# Altium integrated library General.IntLib: 102 symbols (part 2 of 3)
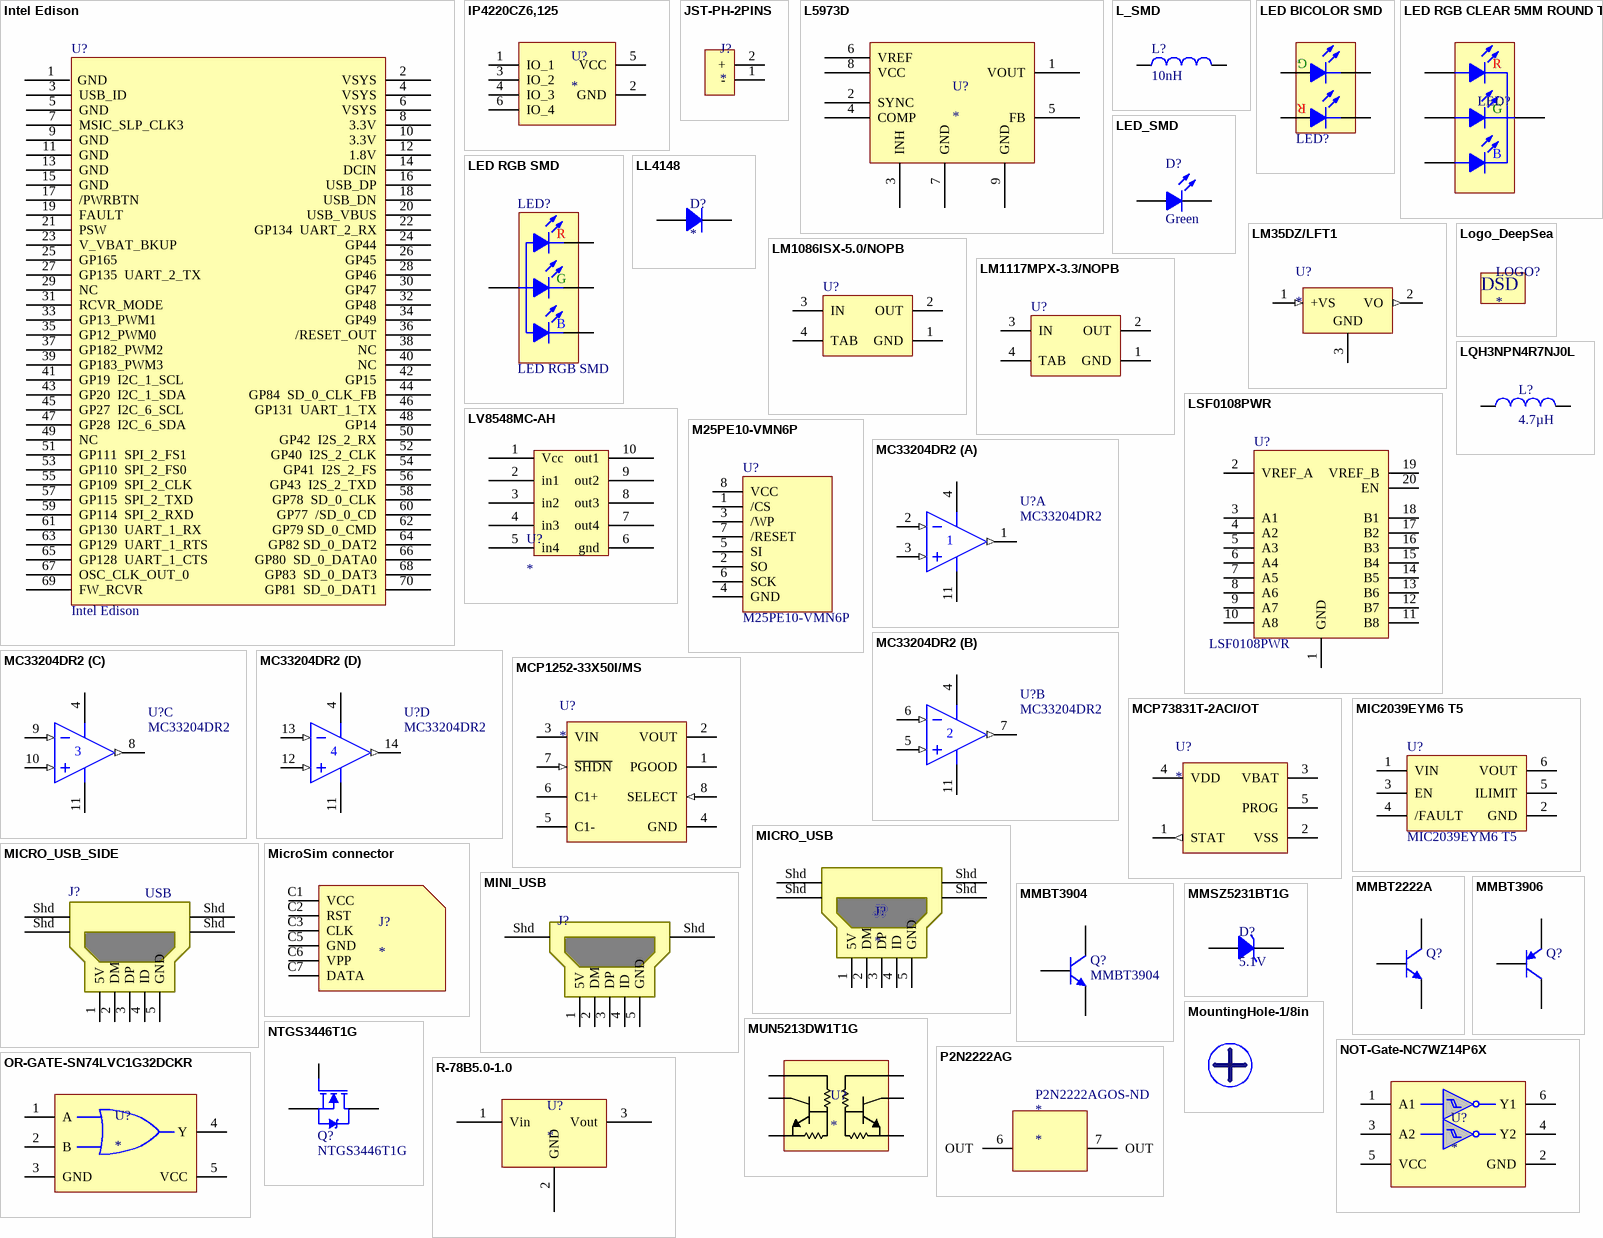
[diagram p4: symbols Intel Edison to R-78B5.0-1.0]

## LM1117MPX-3.3/NOPB
designator U?
800mA Low-Dropout Linear Regulator, 4-pin SOT-223, Pb-Free; PartNumber: LM1117MPX-3.3/NOPB; Manufacturer: National Semiconductor; PackageTopMarking: XYTT*N05A; PowerWise: N; CompType: LDO IC; Regulator Topology: Positive Fixed; Voltage - Output: 3.3V; Voltage - Dropout (Typical): 1.2V @ 800mA; Number of Regulators: 1; Voltage - Input: Up to 15V; Published: 1-Mar-2010; DatasheetVersion: Apr-2006; PackageVersion: revB, Apr-2003; PackageReference: MP04A; Publisher: Altium Limited; PackageDescription: Molded SOT-223, 6.50 x 3.56 x 1.6mm Body, 4 Lead, 2.3mm Pitch; Supplier 1: Digi-Key; Supplier Part Number 1: LM1117MPX-3.3TR-ND; Supplier 2: Digi-Key; Supplier Part Number 2: LM1117MPX-3.3CT-ND; Supplier 3: Digi-Key; Supplier Part Number 3: LM1117MPX-3.3DKR-ND; RoHS: Y; PinCount: 4; Code_JEDEC: TO-261-AA; Code_IPC: SOT223-4; ComponentLink1Description: LM1117 Datasheet; ComponentLink1URL: http://www.national.com/ds/LM/LM1117.pdf; ComponentLink2Description: LM1117 Web Page; ComponentLink2URL: http://www.national.com/pf/LM/LM1117.html; ComponentLink3Description: MP04A Package Page; ComponentLink3URL: http://www.national.com/packaging/folders/mp04a.html; Supplier 4: Digi-Key; Manufacturer Part Number: LM1117MPX-3.3/NOPB; Category: Integrated Circuits (ICs); Stock 4: 15124; Pricing 4: 1=1.1, 10=0.973, 25=0.8784, 100=0.7686, 250=0.67404, 500=0.5978, 750=0.52155, 1000=0.47275 (USD); Packaging: Cut Tape (CT); Current - Output: 800mA; Current - Limit (Min): 800mA; Operating Temperature: 0°C ~ 125°C; Mounting Type: Surface Mount; Package / Case: TO-261-4, TO-261AA; Supplier Device Package: SOT-223; ComponentLink4URL: http://www.ti.com/lit/ds/symlink/lm1117-n.pdf; ComponentLink4Description: http://www.ti.com/lit/ds/symlink/lm1117-n.pdf; Supplier Part Number 4: LM1117MPX-3.3/NOPBCT-ND
footprint MP04A_N (SOT223, 4-Leads, Body 6.5x3.5mm, Pitch 2.3mm, Lead Span 7mm, IPC Medium Density)
footprint MP04A_L (SOT223, 4-Leads, Body 6.5x3.5mm, Pitch 2.3mm, Lead Span 7mm, IPC High Density)
footprint MP04A_M (SOT223, 4-Leads, Body 6.5x3.5mm, Pitch 2.3mm, Lead Span 7mm, IPC Low Density)
pins: 1 GND (power), 2 OUT (power), 3 IN (power), 4 TAB (power)

## Logo_DeepSea
designator LOGO?
footprint DeepSea_logo1
text: DSD

## LQH3NPN4R7NJ0L
designator L?, comment 4.7µH
FIXED IND 4.7UH 1.12A 130 MOHM; Manufacturer: Murata Electronics North America; Manufacturer Part Number: LQH3NPN4R7NJ0L; Type: Wirewound; Material - Core: Ferrite; Tolerance: ±30%; Current - Saturation: 780mA; Shielding: Shielded; DC Resistance (DCR): 156 mOhm Max; Frequency - Self Resonant: 65MHz; Frequency - Test: 1MHz; Supplier 1: Digi-Key; RoHS: RoHS Compliant; Category: Inductors, Coils, Chokes; Stock 1: 11577; Pricing 1: 1=0.43, 10=0.387, 25=0.3436, 50=0.3006, 100=0.2792, 250=0.25772, 500=0.24482 (USD); Packaging: Cut Tape (CT); Current Rating: 1.12A; Q @ Freq: -; Ratings: -; Operating Temperature: -40°C ~ 85°C; Mounting Type: Surface Mount; Package / Case: 1212 (3030 Metric); Size / Dimension: 0.118" L x 0.118" W (3.00mm x 3.00mm); Height - Seated (Max): 0.039" (1.00mm); ComponentLink1URL: http://search.murata.co.jp/Ceramy/image/img/PDF/ENG/L0075S0103LQH3NP_J0.pdf; ComponentLink1Description: http://search.murata.co.jp/Ceramy/image/img/PDF/ENG/L0075S0103LQH3NP_J0.pdf; Supplier Part Number 1: 490-5346-1-ND; Value: 4.7µH
footprint IND_WIRE_murata_N (Precision Wire Wound Inductor, 2-Leads, Body 3.00x3.00mm, IPC Medium Density)
pins: 1, 2

## LSF0108PWR
designator U?
IC 8CH LEVEL TRANS BIDIR 20TSSOP; Manufacturer: Texas Instruments; Logic Function: Translator, Bidirectional; Number of Bits: 8; Input Type: Voltage; Data Rate: 100MHz; Number of Outputs/Channel: 1; Differential - Input:Output: No/No; Propagation Delay (Max): 0.4ns; Voltage - Supply: 0 V ~ 5 V; Supplier 1: Digi-Key; Manufacturer Part Number: LSF0108PWR; RoHS: RoHS Compliant; Category: Integrated Circuits (ICs); Stock 1: 787; Pricing 1: 1=1.98, 10=1.788, 25=1.602, 100=1.4407, 250=1.27928, 500=1.1178, 750=1.01223, 1000=0.92529 (USD); Packaging: Cut Tape (CT); Output Type: Voltage; Number of Channels: 8; Operating Temperature: -40°C ~ 85°C; Package / Case: 20-TSSOP (0.173", 4.40mm Width); Supplier Device Package: 20-TSSOP; Mounting Type: Surface Mount; ComponentLink1URL: http://www.ti.com/lit/ds/symlink/lsf0108.pdf; ComponentLink1Description: http://www.ti.com/lit/ds/symlink/lsf0108.pdf; Supplier Part Number 1: 296-37828-1-ND
footprint TSSOP-20_N (TSOP, 20-Leads, Body 6,50x4,40mm, Pitch 0,65mm, IPC Medium Density)
footprint TSSOP-20_M (TSOP, 20-Leads, Body 6,50x4,40mm, Pitch 0,65mm, IPC Low Density)
footprint TSSOP-20_L (TSOP, 20-Leads, Body 6,50x4,40mm, Pitch 0,65mm, IPC High Density)
pins: 1 GND, 2 VREF_A, 3 A1, 4 A2, 5 A3, 6 A4, 7 A5, 8 A6, 9 A7, 10 A8, 11 B8, 12 B7, 13 B6, 14 B5, 15 B4, 16 B3, 17 B2, 18 B1, 19 VREF_B, 20 EN

## LV8548MC-AH
designator U?
IC MOTOR DRIVER PAR MFP10S; Manufacturer: ON Semiconductor; Manufacturer Part Number: LV8548MC-AH; Motor Type - Stepper: Bipolar; Motor Type - AC, DC: Brushed DC; Function: Power Bridge - Logic Driven Power Stage; Output Configuration: Full H-Bridge, (2) Dual; Interface: Parallel; Current - Output: 1A; Voltage - Supply: 4 V ~ 16 V; Supplier 1: Digi-Key; Supplier Part Number 1: 869-1287-6-ND; Supplier 2: Digi-Key; RoHS: RoHS Compliant; Category: Integrated Circuits (ICs); Stock 2: 2255; Pricing 2: 1=1.41, 10=1.244, 25=1.1232, 100=0.9828, 250=0.86192, 500=0.7644, 1000=0.6045 (USD); Packaging: Cut Tape (CT); Applications: General Purpose; Voltage - Load: 4 V ~ 16 V; Operating Temperature: -30°C ~ 85°C; Mounting Type: Surface Mount; Package / Case: 10-LSOP (0.173", 4.40mm Width); Supplier Device Package: MFP10S; ComponentLink1URL: http://www.onsemi.com/pub_link/Collateral/ENA2038-D.PDF; ComponentLink1Description: http://www.onsemi.com/pub_link/Collateral/ENA2038-D.PDF; Supplier Part Number 2: 869-1287-1-ND
footprint SOIC10
pins: 1 Vcc, 2 in1, 3 in2, 4 in3, 5 in4, 6 gnd, 7 out4, 8 out3, 9 out2, 10 out1

## M25PE10-VMN6P
designator U?
IC FLASH 1MBIT 75MHZ 8SO; Manufacturer: Micron Technology Inc; Memory Type: FLASH - NOR; Memory Size: 1M (128K x 8); Interface: SPI Serial; Voltage - Supply: 2.7 V ~ 3.6 V; Supplier 1: Digi-Key; Manufacturer Part Number: M25PE10-VMN6P; RoHS: RoHS Compliant; Category: Integrated Circuits (ICs); Stock 1: 1134; Pricing 1: 1=0.53, 10=0.516, 25=0.4796, 50=0.4768, 100=0.4236, 250=0.41808, 500=0.41184, 1000=0.4008, 2500=0.39216 (USD); Packaging: Tube; Format - Memory: FLASH; Speed: 75MHz; Operating Temperature: -40°C ~ 85°C; Package / Case: 8-SOIC (0.154", 3.90mm Width); Supplier Device Package: 8-SO; ComponentLink1URL: http://www.micron.com/~/media/Documents/Products/Data%20Sheet/NOR%20Flash/Serial%20NOR/M25PE_M45PE/M25PE20_10.pdf; ComponentLink1Description: http://www.micron.com/~/media/Documents/Products/Data%20Sheet/NOR%20Flash/Serial%20NOR/M25PE_M45PE/M25PE20_10.pdf; Supplier Part Number 1: M25PE10-VMN6P-ND
footprint SO8N_N (SOIC, 8-Leads, Body 4,90x3,90mm, Pitch 1,27mm, IPC Medium Density)
footprint SO8N_M (SOIC, 8-Leads, Body 4,90x3,90mm, Pitch 1,27mm, IPC Low Density)
footprint SO8N_L (SOIC, 8-Leads, Body 4,90x3,90mm, Pitch 1,27mm, IPC High Density)
pins: 1 /CS, 2 SO, 3 /WP, 4 GND, 5 SI, 6 SCK, 7 /RESET, 8 VCC

## MC33204DR2
designator U?
Rail-to-Rail Quad Operational Amplifier; Manufacturer: ON Semiconductor; Manufacturer Part Number: MC33204DR2G; Amplifier Type: General Purpose; Number of Circuits: 4; Slew Rate: 1 V/µs; Gain Bandwidth Product: 2.2MHz; Current - Input Bias: 80nA; Voltage - Input Offset: 10mV; Current - Supply: 900µA; Current - Output / Channel: 80mA; Voltage - Supply, Single/Dual (±): 1.8 V ~ 12 V, ±0.9 V ~ 6 V; Published: 17-Jul-2002; LatestRevisionDate: 13-Apr-2006; LatestRevisionNote: IPC-7351 Footprint Added.; DatasheetVersion: Nov-1999; PackageVersion: May-1997; PackageReference: 751A-03; Publisher: Altium Limited; PackageDescription: 14-Pin Small Outline Integrated Circuit 1.27 mm Pitch; Code_JEDEC: MS-012-AB; Code_IPC: SOIC127P600-14; ComponentLink1Description: Manufacturer Link; ComponentLink1URL: http://www.onsemi.com/site/products/parametrics/0,4446,251,00.html; ComponentLink2Description: Datasheet; ComponentLink2URL: http://www.onsemi.com/pub/Collateral/MC33201-D.PDF; Supplier 1: Digi-Key; RoHS: RoHS Compliant; Category: Integrated Circuits (ICs); Stock 1: 2905; Pricing 1: 1=1.66, 10=1.467, 25=1.3248, 100=1.1592, 250=1.0166, 500=0.9016, 1000=0.713 (USD); Packaging: Cut Tape (CT); Output Type: Rail-to-Rail; -3db Bandwidth: -; Operating Temperature: -40°C ~ 105°C; Mounting Type: Surface Mount; Package / Case: 14-SOIC (0.154", 3.90mm Width); Supplier Device Package: 14-SOICN; ComponentLink3URL: http://www.onsemi.com/pub_link/Collateral/MC33201-D.PDF; ComponentLink3Description: http://www.onsemi.com/pub_link/Collateral/MC33201-D.PDF; Supplier Part Number 1: MC33204DR2GOSCT-ND
footprint 751A-03_N (SOIC, 14-Leads, Body 8.7x3.9mm, Pitch 1.27mm, IPC Medium Density)
footprint 751A-03_L (SOIC, 14-Leads, Body 8.7x3.9mm, Pitch 1.27mm, IPC High Density)
footprint 751A-03_M (SOIC, 14-Leads, Body 8.7x3.9mm, Pitch 1.27mm, IPC Low Density)
3D model 751A-03 (PCB3D Model)
simulation model MC33204 (SUBCKT)
pins on every part: 4 V+ (power), 11 V- (power)
part A pins: 1 OUT (out), 2 IN- (in), 3 IN+ (in)
part B pins: 5 IN+ (in), 6 IN- (in), 7 OUT (out)
part C pins: 8 OUT (out), 9 IN- (in), 10 IN+ (in)
part D pins: 12 IN+ (in), 13 IN- (in), 14 OUT (out)

## MCP1252-33X50I/MS
designator U?
IC REG MULTI CONFIG 0.12A 8MSOP; Manufacturer: Microchip Technology; Manufacturer Part Number: MCP1252-33X50I/MS; Output Type: Fixed; Number of Outputs: 1; Voltage - Output: 3.3V, 5V; Voltage - Input: 2 V ~ 5.5 V; Frequency - Switching: 650kHz; Current - Output: 120mA; Synchronous Rectifier: No; Supplier 1: Digi-Key; RoHS: RoHS Compliant; Category: Integrated Circuits (ICs); Stock 1: 1865; Pricing 1: 1=1.64, 10=1.37, 25=1.14, 100=1.04 (USD); Packaging: Tube; Type: Step-Down (Buck), Step-Up (Boost), Switched Capacitor (Charge Pump); PWM Type: -; Operating Temperature: -40°C ~ 85°C; Mounting Type: Surface Mount; Package / Case: 8-TSSOP, 8-MSOP (0.118", 3.00mm Width); Supplier Device Package: 8-MSOP; ComponentLink1URL: http://www.microchip.com/mymicrochip/filehandler.aspx?ddocname=en011637; ComponentLink1Description: http://www.microchip.com/mymicrochip/filehandler.aspx?ddocname=en011637; Supplier Part Number 1: MCP1252-33X50I/MS-ND
footprint MSOP-MS8_L (TSOP, 8-Leads, Body 3x3mm, Pitch 0.65mm, IPC High Density)
footprint MSOP-MS8_M (TSOP, 8-Leads, Body 3x3mm, Pitch 0.65mm, IPC Low Density)
footprint MSOP-MS8_N (TSOP, 8-Leads, Body 3x3mm, Pitch 0.65mm, IPC Medium Density)
pins: 1 PGOOD (oc), 2 VOUT (power), 3 VIN (power), 4 GND (power), 5 C1-, 6 C1+, 7 ~{SHDN} (in), 8 SELECT (in)

## MCP73831T-2ACI/OT
designator U?
IC CONTROLLR LI-ION 4.2V SOT23-5; Manufacturer: Microchip Technology; Manufacturer Part Number: MCP73831T-2ACI/OT; Function: Charge Management; Battery Chemistry: Li-Ion, Li-Pol; Voltage - Supply: 3.75 V ~ 6 V; Supplier 1: Digi-Key; RoHS: RoHS Compliant; Category: Integrated Circuits (ICs); Stock 1: 15473; Pricing 1: 1=0.67, 10=0.56, 25=0.47, 100=0.42 (USD); Packaging: Cut Tape (CT); Operating Temperature: -40°C ~ 85°C; Mounting Type: Surface Mount; Package / Case: SC-74A, SOT-753; Supplier Device Package: SOT-23-5; ComponentLink1URL: http://www.microchip.com/mymicrochip/filehandler.aspx?ddocname=en025112; ComponentLink1Description: http://www.microchip.com/mymicrochip/filehandler.aspx?ddocname=en025112; Supplier Part Number 1: MCP73831T-2ACI/OTCT-ND
footprint SOT-23-OT5_M (SOT23, 5-Leads, Body 2.9x1.6mm, Pitch 0.95mm, Lead Span 2.7mm, IPC Low Density)
footprint SOT-23-OT5_L (SOT23, 5-Leads, Body 2.9x1.6mm, Pitch 0.95mm, Lead Span 2.7mm, IPC High Density)
footprint SOT-23-OT5_N (SOT23, 5-Leads, Body 2.9x1.6mm, Pitch 0.95mm, Lead Span 2.7mm, IPC Medium Density)
pins: 1 STAT (out), 2 VSS (power), 3 VBAT (power), 4 VDD (power), 5 PROG

## MIC2039EYM6 T5
designator U?
IC SW DISTRIBUTION SOT23-6L; Manufacturer: Micrel Inc; Switch Type: General Purpose; Number of Outputs: 1; Ratio - Input:Output: 1:1; Output Configuration: High Side; Output Type: P-Channel; Interface: On/Off; Voltage - Load: 2.5 V ~ 5.5 V; Voltage - Supply (Vcc/Vdd): Not Required; Current - Output (Max): Adjustable; Rds (On): 75 mOhm; Input Type: Non-Inverting; Fault Protection: Current Limiting (Adjustable), Over Temperature, UVLO; Supplier 1: Digi-Key; Manufacturer Part Number: MIC2039EYM6 T5; RoHS: RoHS Compliant; Category: Integrated Circuits (ICs); Stock 1: 0; Pricing 1: 1=1.77, 10=1.58, 25=1.394, 100=1.2544, 250=1.0918 (USD); Packaging: Cut Tape (CT); Features: Slew Rate Controlled, Status Flag; Operating Temperature: -40°C ~ 125°C (TJ); Package / Case: SOT-23-6; ComponentLink1URL: http://www.micrel.com/_PDF/MIC2039.pdf; ComponentLink1Description: http://www.micrel.com/_PDF/MIC2039.pdf; Supplier Part Number 1: 576-4192-1-ND
footprint SOT23-6L(M6)_N (SOT23, 6-Leads, Body 2,90x2,80mm, Pitch 0,95mm, IPC Medium Density)
footprint SOT23-6L(M6)_M (SOT23, 6-Leads, Body 2,90x2,80mm, Pitch 0,95mm, IPC Low Density)
footprint SOT23-6L(M6)_L (SOT23, 6-Leads, Body 2,90x2,80mm, Pitch 0,95mm, IPC High Density)
pins: 1 VIN, 2 GND, 3 EN, 4 /FAULT, 5 ILIMIT, 6 VOUT

## MICRO_USB
designator J?
CONN USB MICRO B RECPT SMT R/A; Manufacturer: FCI; Manufacturer Part Number: 10118194-0001LF; Connector Type: USB - micro B; Number of Contacts: 5; Gender: Receptacle; Specifications: USB 2.0; Supplier 1: Digi-Key; RoHS: RoHS Compliant; Category: Connectors, Interconnects; Stock 1: 9139; Pricing 1: 1=0.46, 10=0.433, 25=0.3712, 50=0.3156, 100=0.3032, 250=0.27224, 500=0.25988 (USD); Packaging: Cut Tape (CT); Mounting Type: Surface Mount, Right Angle, Horizontal; Features: Shielded, Solder Retention; Ingress Protection: -; ComponentLink1URL: http://portal.fciconnect.com/Comergent//fci/drawing/10118194.pdf; ComponentLink1Description: http://portal.fciconnect.com/Comergent//fci/drawing/10118194.pdf; Supplier Part Number 1: 609-4618-1-ND
footprint USB MICRO
footprint USB_MICRO_SMD
pins: 1 5V (power), 2 DM, 3 DP, 4 ID, 5 GND (power), Shd 6, Shd 7, Shd 6, Shd 7

## MICRO_USB_SIDE
designator J?, comment USB
CONN RCPT MICRO USB B SPLASH PRF; Manufacturer: Hirose Electric Co Ltd; Manufacturer Part Number: ZX62WRD-B-5PC; Connector Type: USB - micro B; Number of Contacts: 5; Gender: Receptacle; Specifications: USB 2.0; Ingress Protection: IPX-2 - Water Resistant; Supplier 1: Digi-Key; RoHS: RoHS Compliant; Category: Connectors, Interconnects; Stock 1: 165; Pricing 1: 1=1.37, 10=1.206, 25=1.1352, 50=1.088, 100=1.0406, 250=0.946, 500=0.8514, 1000=0.7568 (USD); Packaging: Cut Tape (CT); Mounting Type: Surface Mount, Right Angle, Horizontal; Features: Board Guide; ComponentLink1URL: http://media.digikey.com/PDF/Data%20Sheets/Hirose%20PDFs/ZX62WRD-B-5PC_Specs.pdf; ComponentLink1Description: http://media.digikey.com/PDF/Data%20Sheets/Hirose%20PDFs/ZX62WRD-B-5PC_Specs.pdf; Supplier Part Number 1: H12192CT-ND
footprint USB_MICRO_ENCLOSURE
pins: 1 5V (power), 2 DM, 3 DP, 4 ID, 5 GND (power), Shd 6, Shd 7, Shd 6, Shd 7

## MicroSim connector
designator J?
CONN MICRO SIM CARD PUSH-PULL; Manufacturer: Molex, LLC; Manufacturer Part Number: 0786463001; Number of Positions: 6; Connector Type: Connector; Insertion, Removal Method: Push In, Pull Out; Supplier 1: Digi-Key; RoHS: RoHS Compliant; Category: Connectors, Interconnects; Stock 1: 3906; Pricing 1: 1=1.08, 10=0.953, 25=0.8964, 50=0.8592, 100=0.8218, 250=0.74712, 500=0.6724 (USD); Packaging: Cut Tape (CT); Card Type: Micro SIM; Ejector Side: -; Mounting Type: Surface Mount, Right Angle; Features: -; Height Above Board: 0.057" (1.45mm); Mounting Feature: Normal, Standard - Top; Contact Finish: Gold; Contact Finish Thickness: 15µin (0.38µm); ComponentLink1URL: http://www.molex.com/pdm_docs/sd/786463001_sd.pdf; ComponentLink1Description: http://www.molex.com/pdm_docs/sd/786463001_sd.pdf; Supplier Part Number 1: WM9364CT-ND
footprint MicroSim-MOLEX
pins: C1 VCC, C2 RST, C3 CLK, C5 GND, C6 VPP, C7 DATA

## MINI_USB
designator J?
CONN RCPT USB MINI B R/A SMD; Manufacturer: Hirose Electric Co Ltd; Manufacturer Part Number: UX60SC-MB-5ST(80); Number of Contacts: 5; Gender: Receptacle; Specifications: USB 2.0; Connector Type: USB - mini B; Supplier 1: Digi-Key; RoHS: RoHS Compliant; Category: Connectors, Interconnects; Stock 1: 43682; Pricing 1: 1=1.05, 10=0.813, 25=0.7576, 50=0.6876, 100=0.62, 250=0.52252, 500=0.495 (USD); Packaging: Cut Tape (CT); Mounting Type: Surface Mount, Right Angle, Horizontal; Features: Solder Retention; Ingress Protection: -; ComponentLink1URL: http://www.hirose.co.jp/cataloge_hp/e24000153.pdf; ComponentLink1Description: http://www.hirose.co.jp/cataloge_hp/e24000153.pdf; Supplier Part Number 1: H11671CT-ND
footprint USB MINI
pins: 1 5V (power), 2 DM, 3 DP, 4 ID, 5 GND (power), Shd 6, Shd 7

## MMBT2222A
designator Q?
NPN Switching Transistor; Published: 17-Sep-2003; LatestRevisionDate: 12-Dec-2006; LatestRevisionNote: IPC-7351 Footprint Added.; DatasheetVersion: 11-Apr-2000; PackageVersion: May-1999; PackageReference: SOT23; Publisher: Altium Limited; PackageDescription: 3-Pin SOT-23 Package 0.95 mm Pitch, 2.3 mm Lead Span; ComponentLink1Description: Manufacturer Link; ComponentLink1URL: http://www.semiconductors.philips.com/; ComponentLink2Description: Datasheet; ComponentLink2URL: http://www.semiconductors.philips.com/acrobat/datasheets/MMBT2222A_2.pdf
footprint SOT23_N (SOT23, 3-Leads, Body 2.9x1.3mm, Pitch 0.95mm, Lead Span 2.3mm, IPC Medium Density)
footprint SOT23_L (SOT23, 3-Leads, Body 2.9x1.3mm, Pitch 0.95mm, Lead Span 2.3mm, IPC High Density)
footprint SOT23_M (SOT23, 3-Leads, Body 2.9x1.3mm, Pitch 0.95mm, Lead Span 2.3mm, IPC Low Density)
simulation model QMMBT2222A (NPN)
signal-integrity model MMBT2222A
pins: 1 B, 2 E, 3 C

## MMBT3904
designator Q?
NPN Switching Transistor; Manufacturer: Micro Commercial Co; Manufacturer Part Number: MMBT3904-TP; Current - Collector (Ic) (Max): 200mA; Voltage - Collector Emitter Breakdown (Max): 40V; Vce Saturation (Max) @ Ib, Ic: 300mV @ 5mA, 50mA; DC Current Gain (hFE) (Min) @ Ic, Vce: 100 @ 10mA, 1V; Power - Max: 350mW; Frequency - Transition: 300MHz; Published: 17-Sep-2003; LatestRevisionDate: 12-Dec-2006; LatestRevisionNote: IPC-7351 Footprint Added.; DatasheetVersion: 13-May-2002; PackageVersion: May-1999; PackageReference: SOT23; Publisher: Altium Limited; PackageDescription: 3-Pin SOT-23 Package 0.95 mm Pitch, 2.3 mm Lead Span; ComponentLink1Description: Manufacturer Link; ComponentLink1URL: http://www.semiconductors.philips.com/; ComponentLink2Description: Datasheet; ComponentLink2URL: http://www.semiconductors.philips.com/acrobat/datasheets/MMBT3904_4.pdf; Supplier 1: Digi-Key; RoHS: RoHS Compliant; Category: Discrete Semiconductor Products; Stock 1: 101484; Pricing 1: 1=0.14, 10=0.127, 25=0.116, 100=0.0834, 250=0.04916, 500=0.04078, 1000=0.02781 (USD); Packaging: Cut Tape (CT); Transistor Type: NPN; Current - Collector Cutoff (Max): -; Mounting Type: Surface Mount; Package / Case: TO-236-3, SC-59, SOT-23-3; Supplier Device Package: SOT-23; ComponentLink3URL: http://www.mccsemi.com/up_pdf/MMBT3904(SOT-23).pdf; ComponentLink3Description: http://www.mccsemi.com/up_pdf/MMBT3904(SOT-23).pdf; Supplier Part Number 1: MMBT3904TPMSCT-ND
footprint SOT23_N (SOT23, 3-Leads, Body 2.9x1.3mm, Pitch 0.95mm, Lead Span 2.3mm, IPC Medium Density)
footprint SOT23_L (SOT23, 3-Leads, Body 2.9x1.3mm, Pitch 0.95mm, Lead Span 2.3mm, IPC High Density)
footprint SOT23_M (SOT23, 3-Leads, Body 2.9x1.3mm, Pitch 0.95mm, Lead Span 2.3mm, IPC Low Density)
simulation model QMMBT3904 (NPN)
signal-integrity model MMBT3904
pins: 1 B, 2 E, 3 C

## MMBT3906
designator Q?
PNP Switching Transistor; Published: 17-Sep-2003; LatestRevisionDate: 12-Dec-2006; LatestRevisionNote: IPC-7351 Footprint Added.; DatasheetVersion: 11-Apr-2000; PackageVersion: May-1999; PackageReference: SOT23; Publisher: Altium Limited; PackageDescription: 3-Pin SOT-23 Package 0.95 mm Pitch, 2.3 mm Lead Span; ComponentLink1Description: Manufacturer Link; ComponentLink1URL: http://www.semiconductors.philips.com/; ComponentLink2Description: Datasheet; ComponentLink2URL: http://www.semiconductors.philips.com/acrobat/datasheets/MMBT3906_2.pdf
footprint SOT23_N (SOT23, 3-Leads, Body 2.9x1.3mm, Pitch 0.95mm, Lead Span 2.3mm, IPC Medium Density)
footprint SOT23_L (SOT23, 3-Leads, Body 2.9x1.3mm, Pitch 0.95mm, Lead Span 2.3mm, IPC High Density)
footprint SOT23_M (SOT23, 3-Leads, Body 2.9x1.3mm, Pitch 0.95mm, Lead Span 2.3mm, IPC Low Density)
simulation model QMMBT3906 (PNP)
signal-integrity model MMBT3906
pins: 1 B, 2 E, 3 C

## MMSZ5231BT1G
designator D?, comment 5.1V
DIODE ZENER 5.1V 500MW SOD123; Manufacturer: ON Semiconductor; Manufacturer Part Number: MMSZ5231BT1G; Tolerance: ±5%; Impedance (Max) (Zzt): 17 Ohm; Current - Reverse Leakage @ Vr: 5µA @ 2V; Voltage - Forward (Vf) (Max) @ If: 900mV @ 10mA; Supplier 1: Digi-Key; RoHS: RoHS Compliant; Category: Discrete Semiconductor Products; Stock 1: 52721; Pricing 1: 1=0.23, 10=0.192, 100=0.1016, 500=0.06678, 1000=0.0455 (USD); Packaging: Cut Tape (CT); Voltage - Zener (Nom) (Vz): 5.1V; Power - Max: 500mW; Operating Temperature: -55°C ~ 150°C; Mounting Type: Surface Mount; Package / Case: SOD-123; Supplier Device Package: SOD-123; ComponentLink1URL: http://www.onsemi.com/pub_link/Collateral/MMSZ5221BT1-D.PDF; ComponentLink1Description: http://www.onsemi.com/pub_link/Collateral/MMSZ5221BT1-D.PDF; Supplier Part Number 1: MMSZ5231BT1GOSCT-ND
footprint SOD123_N (SODFL, 2-Leads, Body 1.60x3.71mm, IPC Medium Density)
pins: 1 K, 2 A

## MountingHole-1/8in
designator M?  (value not drawn)
footprint MoutingHole-1/8in

## MUN5213DW1T1G
designator U?
TRANS PREBIAS DUAL NPN SOT363; Manufacturer: ON Semiconductor; Manufacturer Part Number: MUN5213DW1T1G; Transistor Type: 2 NPN - Pre-Biased (Dual); Current - Collector (Ic) (Max): 100mA; Voltage - Collector Emitter Breakdown (Max): 50V; Resistor - Base (R1) (Ohms): 47k; DC Current Gain (hFE) (Min) @ Ic, Vce: 80 @ 5mA, 10V; Vce Saturation (Max) @ Ib, Ic: 250mV @ 300µA, 10mA; Current - Collector Cutoff (Max): 500nA; Power - Max: 250mW; Supplier 1: Digi-Key; RoHS: RoHS Compliant; Category: Discrete Semiconductor Products; Stock 1: 9487; Pricing 1: 1=0.29, 10=0.265, 25=0.1908, 100=0.1485, 250=0.09332, 500=0.07952, 1000=0.05418 (USD); Packaging: Cut Tape (CT); Resistor - Emitter Base (R2) (Ohms): 47k; Frequency - Transition: -; Mounting Type: Surface Mount; Package / Case: 6-TSSOP, SC-88, SOT-363; Supplier Device Package: SC-88/SC70-6/SOT-363; ComponentLink1URL: http://www.onsemi.com/pub_link/Collateral/DTC144ED-D.PDF; ComponentLink1Description: http://www.onsemi.com/pub_link/Collateral/DTC144ED-D.PDF; Supplier Part Number 1: MUN5213DW1T1GOSCT-ND
footprint SOT363_L (SOT363, 6-Leads, Body 2x1.3mm, Pitch 0.65mm, Lead Span 2.1mm, IPC High Density)
footprint SOT363_M (SOT363, 6-Leads, Body 2x1.3mm, Pitch 0.65mm, Lead Span 2.1mm, IPC Low Density)
footprint SOT363_N (SOT363, 6-Leads, Body 2x1.3mm, Pitch 0.65mm, Lead Span 2.1mm, IPC Medium Density)
pins: 1 *, 2 *, 3 *, 4 *, 5 *, 6 b

## NOT-Gate-NC7WZ14P6X
designator U?
IC INVERTER DUAL SCHMITT SC70-6; Manufacturer: Fairchild Semiconductor; Manufacturer Part Number: NC7WZ14P6X; Number of Circuits: 2; Voltage - Supply: 1.65 V ~ 5.5 V; Current - Quiescent (Max): 1µA; Current - Output High, Low: 32mA, 32mA; Logic Level - Low: 0.2 V ~ 1.2 V; Logic Level - High: 1.4 V ~ 3.6 V; Max Propagation Delay @ V, Max CL: 4.9ns @ 5V, 50pF; Supplier 1: Digi-Key; RoHS: RoHS Compliant; Category: Integrated Circuits (ICs); Stock 1: 64384; Pricing 1: 1=0.41, 10=0.298, 25=0.232, 100=0.1758, 250=0.12428, 500=0.0995, 1000=0.07631 (USD); Packaging: Cut Tape (CT); Logic Type: Inverter; Number of Inputs: 2; Features: Schmitt Trigger; Operating Temperature: -40°C ~ 85°C; Mounting Type: Surface Mount; Supplier Device Package: SC-70-6; Package / Case: 6-TSSOP, SC-88, SOT-363; ComponentLink1URL: http://www.fairchildsemi.com/datasheets/NC/NC7WZ14.pdf; ComponentLink1Description: http://www.fairchildsemi.com/datasheets/NC/NC7WZ14.pdf; Supplier Part Number 1: NC7WZ14P6XCT-ND
footprint SC70_L (SOT23, 6-Leads, Body 2.00x2.10mm, Pitch 0.65mm, IPC High Density)
footprint SC70_M (SOT23, 6-Leads, Body 2.00x2.10mm, Pitch 0.65mm, IPC Low Density)
footprint SC70_N (SOT23, 6-Leads, Body 2.00x2.10mm, Pitch 0.65mm, IPC Medium Density)
pins: 1 A1, 2 GND, 3 A2, 4 Y2, 5 VCC, 6 Y1

## NTGS3446T1G
designator Q?
MOSFET N-CH 20V 2.5A 6TSOP; Manufacturer: ON Semiconductor; FET Type: MOSFET N-Channel, Metal Oxide; FET Feature: Logic Level Gate; Current - Continuous Drain (Id) @ 25°C: 2.5A (Ta); Rds On (Max) @ Id, Vgs: 45 mOhm @ 5.1A, 4.5V; Vgs(th) (Max) @ Id: 1.2V @ 250µA; Gate Charge (Qg) @ Vgs: 15nC @ 4.5V; Input Capacitance (Ciss) @ Vds: 750pF @ 10V; Power - Max: 500mW; Supplier 1: Digi-Key; Manufacturer Part Number: NTGS3446T1G; RoHS: RoHS Compliant; Category: Discrete Semiconductor Products; Stock 1: 27021; Pricing 1: 1=0.52, 10=0.41, 25=0.3456, 100=0.2816, 250=0.23324, 500=0.19266, 1000=0.1443 (USD); Packaging: Cut Tape (CT); Drain to Source Voltage (Vdss): 20V; Mounting Type: Surface Mount; Package / Case: SC-74, SOT-457; Supplier Device Package: 6-TSOP; ComponentLink1URL: http://www.onsemi.com/pub_link/Collateral/NTGS3446-D.PDF; ComponentLink1Description: http://www.onsemi.com/pub_link/Collateral/NTGS3446-D.PDF; Supplier Part Number 1: NTGS3446T1GOSCT-ND
footprint TSOP6_N (TSOP, 6-Leads, Body 3,00x1,50mm, Pitch 0,95mm, IPC Medium Density)
footprint TSOP6_M (TSOP, 6-Leads, Body 3,00x1,50mm, Pitch 0,95mm, IPC Low Density)
footprint TSOP6_L (TSOP, 6-Leads, Body 3,00x1,50mm, Pitch 0,95mm, IPC High Density)
pins: 1 D, 2 D, 3 G, 4 S, 5 D, 6 D

## OR-GATE-SN74LVC1G32DCKR
designator U?
IC GATE OR 1CH 2-INP SC-70-5; Manufacturer: Texas Instruments; Manufacturer Part Number: SN74LVC1G32DCKR; Logic Type: OR Gate; Number of Circuits: 1; Number of Inputs: 2; Voltage - Supply: 1.65 V ~ 5.5 V; Current - Quiescent (Max): 10µA; Current - Output High, Low: 32mA, 32mA; Logic Level - Low: 0.7 V ~ 0.8 V; Logic Level - High: 1.7 V ~ 2 V; Max Propagation Delay @ V, Max CL: 4ns @ 5V, 50pF; Supplier 1: Digi-Key; RoHS: RoHS Compliant; Category: Integrated Circuits (ICs); Stock 1: 31884; Pricing 1: 1=0.39, 10=0.265, 100=0.124, 1000=0.108 (USD); Packaging: Cut Tape (CT); Features: -; Operating Temperature: -40°C ~ 125°C; Mounting Type: Surface Mount; Supplier Device Package: SC-70-5; Package / Case: 5-TSSOP, SC-70-5, SOT-353; ComponentLink1URL: http://www.ti.com/lit/ds/symlink/sn74lvc1g32.pdf; ComponentLink1Description: http://www.ti.com/lit/ds/symlink/sn74lvc1g32.pdf; Supplier Part Number 1: 296-9848-1-ND
footprint SC70-5_L (SOT23, 5-Leads, Body 2.00x2.10mm, Pitch 0.65mm, IPC High Density)
footprint SC70-5_M (SOT23, 5-Leads, Body 2.00x2.10mm, Pitch 0.65mm, IPC Low Density)
footprint SC70-5_N (SOT23, 5-Leads, Body 2.00x2.10mm, Pitch 0.65mm, IPC Medium Density)
pins: 1 A, 2 B, 3 GND, 4 Y, 5 VCC

## P2N2222AG
designator *  Supplier Part Number 1: P2N2222AGOS-ND
TRANS GP SS NPN LP 40V TO92; Manufacturer: ON Semiconductor; Manufacturer Part Number: P2N2222AG; Current - Collector (Ic) (Max): 600mA; Vce Saturation (Max) @ Ib, Ic: 1V @ 50mA, 500mA; Current - Collector Cutoff (Max): 10nA; DC Current Gain (hFE) (Min) @ Ic, Vce: 100 @ 150mA, 10V; Power - Max: 625mW; Frequency - Transition: 300MHz; Supplier 1: Digi-Key; RoHS: RoHS Compliant; Category: Discrete Semiconductor Products; Stock 1: 22724; Pricing 1: 1=0.42, 10=0.304, 25=0.2368, 100=0.1791, 250=0.12676, 500=0.1014, 1000=0.07774, 2500=0.0676, 5000=0.06084 (USD); Packaging: Bulk; Transistor Type: NPN; Voltage - Collector Emitter Breakdown (Max): 40V; Mounting Type: Through Hole; Package / Case: TO-226-3, TO-92-3 (TO-226AA); Supplier Device Package: TO-92-3; ComponentLink1URL: http://www.onsemi.com/pub_link/Collateral/P2N2222A-D.PDF; ComponentLink1Description: http://www.onsemi.com/pub_link/Collateral/P2N2222A-D.PDF
pins: 6 OUT, 7 OUT

## R-78B5.0-1.0
designator U?
CONV DC/DC 1A 5V OUT SIP VERT; Manufacturer: Recom Power; Manufacturer Part Number: R-78B5.0-1.0; Power (Watts) - Manufacture Series: 5W; Number of Outputs: 1; Voltage - Input (Min): 6.5V; Voltage - Input (Max): 32V; Efficiency: 93%; Supplier 1: Digi-Key; RoHS: RoHS Compliant; Category: Power Supplies - Board Mount; Stock 1: 2864; Pricing 1: 1=8.45, 5=8.384, 10=8.32, 42=8.1919, 84=7.93595, 126=7.16802, 250=7.04 (USD); Packaging: Tube; Type: Linear Regulator Replacement; Voltage - Output 1: 5V; Voltage - Output 2: -; Voltage - Output 3: -; Current - Output (Max): 1A; Voltage - Isolation: -; Features: OTP, SCP; Mounting Type: Through Hole; Package / Case: 3-SIP Module; Size / Dimension: 0.45" L x 0.33" W x 0.69" H (11.5mm x 8.5mm x 17.5mm); Operating Temperature: -40°C ~ 85°C; Power (Watts) - Max: 5W; ComponentLink1URL: http://www.recom-power.com/pdf/Innoline/R-78Bxx-1.0_L.pdf; ComponentLink1Description: http://www.recom-power.com/pdf/Innoline/R-78Bxx-1.0_L.pdf; Supplier Part Number 1: 945-1052-ND
footprint SIP3_RECOM
pins: 1 Vin, 2 GND, 3 Vout

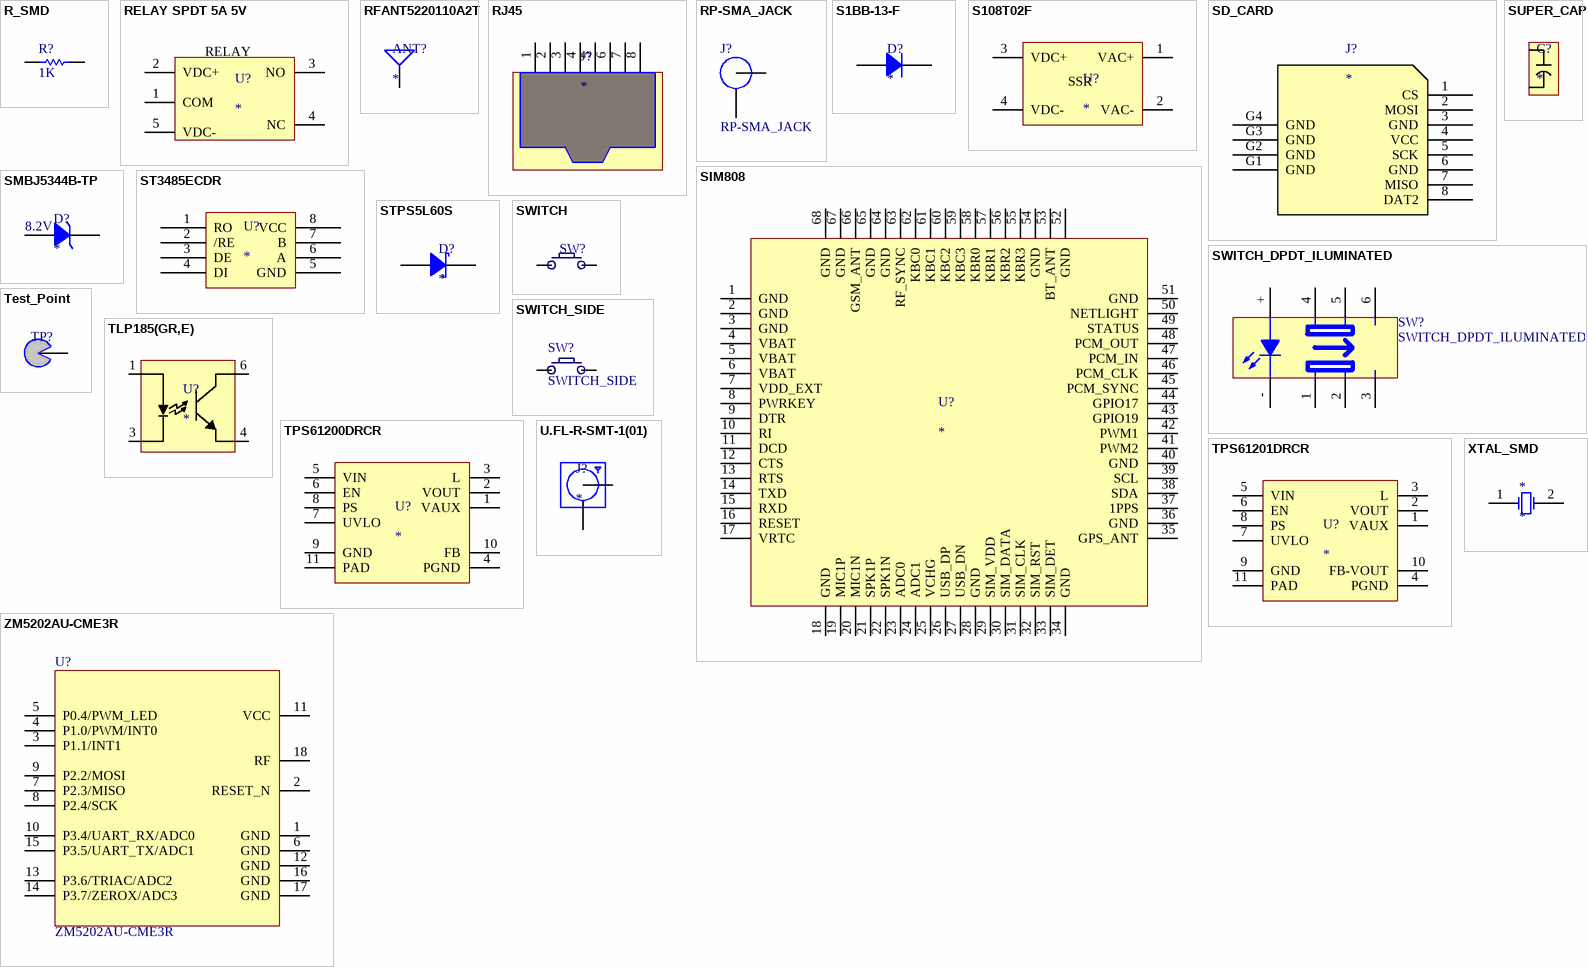
[diagram p2: symbols R_SMD to ZM5202AU-CME3R]

## R_SMD
designator R?, comment 1K
Value: 1K
footprint R0603_L (Chip Resistor, 2-Leads, Body 1,60x0,85mm, IPC High Density)
footprint R0603_M (Chip Resistor, 2-Leads, Body 1,60x0,85mm, IPC Low Density)
footprint R0603_N (Chip Resistor, 2-Leads, Body 1,60x0,85mm, IPC Medium Density)
footprint R0805_L (Chip Resistor, 2-Leads, Body 2,00x1,25mm, IPC High Density)
footprint R0805_M (Chip Resistor, 2-Leads, Body 2,00x1,25mm, IPC Low Density)
footprint R0805_N (Chip Resistor, 2-Leads, Body 2,00x1,25mm, IPC Medium Density)
footprint R1206_L (Chip Resistor, 2-Leads, Body 3,13x1,55mm, IPC High Density)
footprint R1206_M (Chip Resistor, 2-Leads, Body 3,13x1,60mm, IPC Low Density)
footprint R1206_N (Chip Resistor, 2-Leads, Body 3,13x1,55mm, IPC Medium Density)
pins: 1, 2

## RELAY SPDT 5A 5V
designator U?
RELAY GENERAL PURPOSE SPDT 5A 5V; Manufacturer: Omron Electronics Inc-EMC Div; Manufacturer Part Number: G5LA-14 DC5; Coil Type: Non Latching; Coil Current: 72mA; Coil Voltage: 5VDC; Contact Form: SPDT (1 Form C); Switching Voltage: 250VAC, 24VDC - Max; Turn On Voltage (Max): 3.75 VDC; Turn Off Voltage (Min): 0.5 VDC; Operate Time: 10ms; Release Time: 5ms; Coil Power: 360 mW; Coil Resistance: 69 Ohms; Supplier 1: Digi-Key; RoHS: RoHS Compliant; Category: Relays; Stock 1: 2963; Pricing 1: 1=1.39, 10=1.302, 25=1.1576, 50=1.0998, 100=1.0419, 250=0.92616, 500=0.8683, 1000=0.8104, 2500=0.79593 (USD); Packaging: Bulk; Relay Type: General Purpose; Contact Rating (Current): 5A; Features: Insulation - Class A, Sealed - Fully; Mounting Type: Through Hole; Termination Style: PC Pin; Contact Material: Silver Tin Oxide (AgSnO); Operating Temperature: -40°C ~ 85°C; ComponentLink1URL: http://components.omron.com/components/web/PDFLIB.nsf/0/4F7D9D9CA026C97E862573930070AC4F/$file/G5LA_E_0911.pdf; ComponentLink1Description: http://components.omron.com/components/web/PDFLIB.nsf/0/4F7D9D9CA026C97E862573930070AC4F/$file/G5LA_E_0911.pdf; Supplier Part Number 1: Z2560-ND
footprint RELAY
pins: 1 COM, 2 VDC+, 3 NO, 4 NC, 5 VDC-
text: RELAY

## RFANT5220110A2T
designator ANT?
2.4GHZ BT/WLAN CHIP ANT; Manufacturer: Walsin Technology Corporation; Manufacturer Part Number: RFANT5220110A2T; Frequency Group: UHF (2 GHz ~ 3 GHz); Frequency Range: 2.4GHz ~ 2.5GHz; Number of Bands: 1; VSWR: 2; Gain: 2dBi; Supplier 1: Digi-Key; RoHS: RoHS Compliant; Category: RF/IF and RFID; Stock 1: 1590; Pricing 1: 1=0.71, 10=0.601, 25=0.5256, 100=0.4505, 250=0.39048, 500=0.3304, 1000=0.25531 (USD); Packaging: Cut Tape (CT); Frequency (Center/Band): 2.4GHz; Antenna Type: Chip; Return Loss: -; Power - Max: -; Features: -; Termination: Solder; Ingress Protection: -; Mounting Type: Surface Mount; Height (Max): 0.045" (1.15mm); Applications: Bluetooth, WLAN; ComponentLink1URL: http://www.passivecomponent.com/document/HF_Devices/RF_ProductCatalog_Feb08.pdf; ComponentLink1Description: http://www.passivecomponent.com/document/HF_Devices/RF_ProductCatalog_Feb08.pdf; Supplier Part Number 1: 1292-1001-1-ND
footprint BT_ANTENNA_N (Chip Capacitor, 2-Leads, Body 5.20x2.00mm, IPC Medium Density)
pins: 1 ANTENNA

## RJ45
designator J?
CONN MOD JACK R/A 8P8C SHIELDED; Manufacturer: TE Connectivity; Manufacturer Part Number: 5555153-1; Number of Positions/Contacts: 8p8c (RJ45, Ethernet); Number of Ports: 1; Ratings: Cat3; LED Color: Does Not Contain LED; Tab Direction: Down; Supplier 1: Digi-Key; RoHS: RoHS Compliant; Category: Connectors, Interconnects; Stock 1: 4543; Pricing 1: 1=1.82, 10=1.649, 50=1.481, 100=1.4136, 250=1.279, 500=1.17804, 1000=1.00974, 2500=0.94242, 5000=0.8953 (USD); Packaging: Tray; Connector Type: Jack; Number of Rows: 1; Mounting Type: Through Hole; Orientation: 90° Angle (Right); Termination: Solder; Shielding: Shielded; Features: Board Lock, Panel Stops; Ingress Protection: -; Contact Material: Phosphor Bronze; Contact Finish: Gold; Contact Finish Thickness: 50µin (1.27µm); Housing Material: Polybutylene Terephthalate (PBT), Polyester; Operating Temperature: -40°C ~ 85°C; ComponentLink1URL: http://www.te.com/commerce/DocumentDelivery/DDEController?Action=srchrtrv&DocNm=5555153&DocType=Customer+Drawing&DocLang=English; ComponentLink1Description: http://www.te.com/commerce/DocumentDelivery/DDEController?Action=srchrtrv&DocNm=5555153&DocType=Customer+Drawing&DocLang=English; Supplier Part Number 1: A31438-ND
footprint rj45
pins: 1, 2, 3, 4, 5, 6, 7, 8

## RP-SMA_JACK
designator J?
CONN RP SMAN JACK R/A 50OHM PCB; Manufacturer: Linx Technologies Inc; Manufacturer Part Number: CONREVSMA002-G; Connector Style: RP-SMA; Connector Type: Jack, Male Pin; Contact Termination: Solder; Frequency - Max: 18GHz; Body Material: Brass; Body Finish: Gold; Center Contact Material: Beryllium Copper; Dielectric Material: Polytetrafluoroethylene (PTFE); Voltage Rating: 500V; Supplier 1: Digi-Key; RoHS: RoHS Compliant; Category: Connectors, Interconnects; Stock 1: 1428; Pricing 1: 1=3.26, 25=3.13, 100=2.6101, 500=2.3625 (USD); Packaging: Bulk; Shield Termination: Solder; Impedance: 50 Ohm; Mounting Type: Through Hole, Right Angle; Cable Group: -; Fastening Type: Threaded; Features: Board Guide; Housing Color: Gold; Ingress Protection: -; Center Contact Plating: Gold; Operating Temperature: -65°C ~ 165°C; ComponentLink1URL: http://www.linxtechnologies.com/resources/diagrams/conrevsma002-g.pdf; ComponentLink1Description: http://www.linxtechnologies.com/resources/diagrams/conrevsma002-g.pdf; Supplier Part Number 1: CONREVSMA002-G-ND
footprint RP-SMA
pins: 0 GND, 1 ANTENNA

## S1BB-13-F
designator D?
DIODE GEN PURPOSE 100V 1A SMB; Manufacturer: Diodes Incorporated; Manufacturer Part Number: S1BB-13-F; Diode Type: Standard; Voltage - Forward (Vf) (Max) @ If: 1.1V @ 1A; Speed: Standard Recovery >500ns, > 200mA (Io); Reverse Recovery Time (trr): 3µs; Current - Reverse Leakage @ Vr: 5µA @ 100V; Capacitance @ Vr, F: 10pF @ 4V, 1MHz; Supplier 1: Digi-Key; RoHS: RoHS Compliant; Category: Discrete Semiconductor Products; Stock 1: 11988; Pricing 1: 1=0.43, 10=0.306, 25=0.2416, 100=0.1836, 250=0.13004, 500=0.10404, 1000=0.078 (USD); Packaging: Cut Tape (CT); Voltage - DC Reverse (Vr) (Max): 100V; Current - Average Rectified (Io): 1A; Mounting Type: Surface Mount; Package / Case: DO-214AA, SMB; Supplier Device Package: SMB; Operating Temperature - Junction: -65°C ~ 150°C; ComponentLink1URL: http://www.diodes.com/datasheets/ds16003.pdf; ComponentLink1Description: http://www.diodes.com/datasheets/ds16003.pdf; Supplier Part Number 1: S1BB-FDICT-ND
footprint SMB_L (Molded Diode, 2-Leads, Body 4,41x3,62mm, IPC High Density)
footprint SMB_M (Molded Diode, 2-Leads, Body 4,41x3,62mm, IPC Low Density)
footprint SMB_N (Molded Diode, 2-Leads, Body 4,41x3,62mm, IPC Medium Density)
pins: 1 A, 2 K

## S108T02F
designator U?
RELAY SSR 120VAC 8A ZC 4-SIP; Manufacturer: Sharp Microelectronics; Manufacturer Part Number: S108T02F; Circuit: SPST-NO (1 Form A); Output Type: AC, Zero Cross; Voltage - Input: 1.2VDC; Voltage - Load: 80 ~ 120 V; Supplier 1: Digi-Key; RoHS: RoHS Compliant; Category: Relays; Stock 1: 919; Pricing 1: 1=5.1, 10=4.08, 25=3.876, 100=3.366, 500=2.958, 750=2.7948, 1000=2.652, 2500=2.55, 5000=2.4888 (USD); Packaging: Tube; On-State Resistance: -; Load Current: 8A; Mounting Type: Through Hole; Termination Style: PC Pin; Package / Case: 4-SIP; Supplier Device Package: 4-SIP; Relay Type: Relay; ComponentLink1URL: http://www.sharpsma.com/webfm_send/315; ComponentLink1Description: http://www.sharpsma.com/webfm_send/315; Supplier Part Number 1: 425-2396-5-ND
footprint ZC_4-ZSIP
pins: 1 VAC+, 2 VAC-, 3 VDC+, 4 VDC-
text: SSR

## SD_CARD
designator J?
CONN MEMORY CARD R/A 8POS SMD; Manufacturer: Molex Inc; Manufacturer Part Number: 0472192001; Number of Positions: 8; Connector Type: Connector and Ejector; Insertion, Removal Method: Hinged Lid; Card Type: Secure Digital - microSD™; Supplier 1: Digi-Key; RoHS: RoHS Compliant; Category: Connectors, Interconnects; Stock 1: 10625; Pricing 1: 1=1.11, 10=0.973, 25=0.916, 50=0.8776, 100=0.8395, 250=0.7632 (USD); Packaging: Cut Tape (CT); Ejector Side: -; Mounting Type: Surface Mount, Right Angle; Features: -; Height Above Board: 0.075" (1.90mm); Mounting Feature: Normal, Standard - Top; Contact Finish: Gold; Contact Finish Thickness: 20µin (0.51µm); ComponentLink1URL: http://www.molex.com/pdm_docs/sd/472192001_sd.pdf; ComponentLink1Description: http://www.molex.com/pdm_docs/sd/472192001_sd.pdf; Supplier Part Number 1: WM6698CT-ND
footprint MICRO_SD-SOCKET
pins: 1 CS, 2 MOSI, 3 GND, 4 VCC, 5 SCK, 6 GND, 7 MISO, 8 DAT2, G1 GND, G2 GND, G3 GND, G4 GND

## SIM808
designator U?
Module: GPS/GSM; GPRS; 2G; 1800MHz,900MHz; GPIO, Serial, USB; SMD; Manufacturer: SIMCOM; Manufacturer Part Number: SIM808; Unit: pcs; SuppliedAmount: 0; MinAmount: 1; Supply voltage: 3.4...4.4V DC; Module output power: 1 W (class 1 @ 1800/1900MHz); Communications modules features: GPRS mobile station class B; GPS features: hot start <1s; Supplier 1: TME; Category: GSM/GPS/GPRS/HSPA/EDGE/LTE Modules; Stock 1: 180; Pricing 1: 1=23.5, 3=22, 10=19.6, 50=17 (USD); Weight: 4.878; Multiples: 1; Price Type: NET; Communications module type: GPS/GSM; Transmission: GPRS; Standard: 2G; Frequency: 1800MHz; Interface: GPIO; Operating temperature: -40...85°C; Dimensions: 24 x 24 x 2.6mm; Mounting: SMD; Case: 68-pad SMT; ComponentLink1URL: http://www.tme.eu/en/details/sim808/gsmgpsgprshspaedgelte-modules/simcom/; ComponentLink1Description: http://www.tme.eu/en/details/sim808/gsmgpsgprshspaedgelte-modules/simcom/; Supplier Part Number 1: SIM808
footprint SIM808
pins: 1 GND, 2 GND, 3 GND, 4 VBAT, 5 VBAT, 6 VBAT, 7 VDD_EXT, 8 PWRKEY, 9 DTR, 10 RI, 11 DCD, 12 CTS, 13 RTS, 14 TXD, 15 RXD, 16 RESET, 17 VRTC, 18 GND, 19 MIC1P, 20 MIC1N, 21 SPK1P, 22 SPK1N, 23 ADC0, 24 ADC1, 25 VCHG, 26 USB_DP, 27 USB_DN, 28 GND, 29 SIM_VDD, 30 SIM_DATA, 31 SIM_CLK, 32 SIM_RST, 33 SIM_DET, 34 GND, 35 GPS_ANT, 36 GND, 37 1PPS, 38 SDA, 39 SCL, 40 GND, 41 PWM2, 42 PWM1, 43 GPIO19, 44 GPIO17, 45 PCM_SYNC, 46 PCM_CLK, 47 PCM_IN, 48 PCM_OUT, 49 STATUS, 50 NETLIGHT, 51 GND, 52 GND, 53 BT_ANT, 54 GND, 55 KBR3, 56 KBR2, 57 KBR1, 58 KBR0, 59 KBC3, 60 KBC2, 61 KBC1, 62 KBC0, 63 RF_SYNC, 64 GND, 65 GND, 66 GSM_ANT, 67 GND, 68 GND

## SMBJ5344B-TP
designator D?  Voltage - Zener (Nom) (Vz): 8.2V
DIODE ZENER 8.2V 5W DO214AA; Manufacturer: Micro Commercial Co; Manufacturer Part Number: SMBJ5344B-TP; Tolerance: ±5%; Impedance (Max) (Zzt): 1.5 Ohm; Current - Reverse Leakage @ Vr: 10µA @ 6.2V; Voltage - Forward (Vf) (Max) @ If: 1.2V @ 1A; Supplier 1: Digi-Key; RoHS: RoHS Compliant; Category: Discrete Semiconductor Products; Stock 1: 15936; Pricing 1: 1=0.65, 10=0.57, 25=0.504, 100=0.4392, 250=0.38236, 500=0.32548, 1000=0.2607 (USD); Packaging: Cut Tape (CT); Power - Max: 5W; Operating Temperature: -55°C ~ 150°C; Mounting Type: Surface Mount; Package / Case: DO-214AA, SMB; Supplier Device Package: DO-214AA (SMB); ComponentLink1URL: http://www.mccsemi.com/up_pdf/SMBJ5338B-SMBJ5388B(SMB).pdf; ComponentLink1Description: http://www.mccsemi.com/up_pdf/SMBJ5338B-SMBJ5388B(SMB).pdf; Supplier Part Number 1: SMBJ5344B-TPMSCT-ND
footprint SMB_L (Molded Diode, 2-Leads, Body 4,41x3,62mm, IPC High Density)
footprint SMB_M (Molded Diode, 2-Leads, Body 4,41x3,62mm, IPC Low Density)
footprint SMB_N (Molded Diode, 2-Leads, Body 4,41x3,62mm, IPC Medium Density)
pins: 1 A, 2 K

## ST3485ECDR
designator U?
TXRX RS485/422 3.3V ESD 8-SOIC; Manufacturer: STMicroelectronics; Manufacturer Part Number: ST3485ECDR; Protocol: RS422, RS485; Number of Drivers/Receivers: 1/1; Duplex: Half; Receiver Hysteresis: 70mV; Data Rate: 15Mbps; Voltage - Supply: 3 V ~ 3.6 V; Supplier 1: Digi-Key; RoHS: RoHS Compliant; Category: Integrated Circuits (ICs); Stock 1: 2539; Pricing 1: 1=2.44, 10=2.206, 25=1.9764, 100=1.7772, 250=1.578, 500=1.37884, 1000=1.11899 (USD); Packaging: Cut Tape (CT); Type: Transceiver; Operating Temperature: 0°C ~ 70°C; Mounting Type: Surface Mount; Package / Case: 8-SOIC (0.154", 3.90mm Width); Supplier Device Package: 8-SO; ComponentLink1URL: http://www.st.com/web/en/resource/technical/document/datasheet/CD00003137.pdf; ComponentLink1Description: http://www.st.com/web/en/resource/technical/document/datasheet/CD00003137.pdf; Supplier Part Number 1: 497-6540-1-ND
footprint SOIC8WA_N (SOP, 8-Leads, Body 5.3x5.3mm, Pitch 1.27mm, IPC Medium Density)
footprint SOIC8WA_M (SOP, 8-Leads, Body 5.3x5.3mm, Pitch 1.27mm, IPC Low Density)
footprint SOIC8WA_L (SOP, 8-Leads, Body 5.3x5.3mm, Pitch 1.27mm, IPC High Density)
pins: 1 RO, 2 /RE, 3 DE, 4 DI, 5 GND, 6 A, 7 B, 8 VCC

## STPS5L60S
designator D?
DIODE SCHOTTKY 60V 5A SMC; Manufacturer: STMicroelectronics; Manufacturer Part Number: STPS5L60S; Voltage - Forward (Vf) (Max) @ If: 520mV @ 5A; Speed: Fast Recovery =< 500ns, > 200mA (Io); Current - Reverse Leakage @ Vr: 220µA @ 60V; Supplier 1: Digi-Key; RoHS: RoHS Compliant; Category: Discrete Semiconductor Products; Stock 1: 16036; Pricing 1: 1=0.93, 10=0.814, 25=0.7192, 100=0.6267, 250=0.54552, 500=0.46436, 1000=0.36465 (USD); Packaging: Cut Tape (CT); Diode Type: Schottky; Voltage - DC Reverse (Vr) (Max): 60V; Current - Average Rectified (Io): 5A; Reverse Recovery Time (trr): -; Capacitance @ Vr, F: -; Mounting Type: Surface Mount; Package / Case: DO-214AB, SMC; Supplier Device Package: SMC; Operating Temperature - Junction: 150°C (Max); ComponentLink1URL: http://www.st.com/web/en/resource/technical/document/datasheet/CD00002924.pdf; ComponentLink1Description: http://www.st.com/web/en/resource/technical/document/datasheet/CD00002924.pdf; Supplier Part Number 1: 497-8487-1-ND
footprint SMC_L (Molded Diode, 2-Leads, Body 7,95x5,88mm, IPC High Density)
footprint SMC_M (Molded Diode, 2-Leads, Body 7,95x5,88mm, IPC Low Density)
footprint SMC_N (Molded Diode, 2-Leads, Body 7,95x5,88mm, IPC Medium Density)
pins: 1 A, 2 K

## SUPER_CAP
designator C?
CAP SUPER 0.06F 3.3V COIN SMD; Manufacturer: Taiyo Yuden; Manufacturer Part Number: PAS414HR-VA5R; Capacitance: 60mF; ESR (Equivalent Series Resistance): 80 Ohm; Supplier 1: Digi-Key; RoHS: RoHS Compliant; Category: Capacitors; Stock 1: 22965; Pricing 1: 1=1.18, 10=0.987, 25=0.8504, 50=0.798, 100=0.63, 250=0.525, 500=0.4725, 1000=0.4305 (USD); Packaging: Cut Tape (CT); Voltage - Rated: 3.3V; Tolerance: -; Lifetime @ Temp.: -; Mounting Type: Surface Mount; Package / Case: Coin, Wide Terminals - Same Sides; Lead Spacing: -; Size / Dimension: 0.189" Dia (4.80mm); Height - Seated (Max): 0.061" (1.55mm); Operating Temperature: -20°C ~ 60°C; ComponentLink1URL: http://www.yuden.co.jp/productdata/catalog/en/capacitor01_e.pdf; ComponentLink1Description: http://www.yuden.co.jp/productdata/catalog/en/capacitor01_e.pdf; Supplier Part Number 1: 587-2158-1-ND
footprint 414-VA5R (super cap footprint)
pins: 1 *, 2 *

## SWITCH
designator SW?
SWITCH TACTILE SPST-NO 0.05A 12V; Manufacturer: TE Connectivity; Manufacturer Part Number: FSM4JSMATR; Switch Function: Off-Mom; Contact Rating @ Voltage: 0.05A @ 12VDC; Actuator Type: Standard; Actuator Height off PCB, from Pins: 5.00mm; Actuator Orientation: Top Actuated; Outline: 6.00mm x 6.00mm; Illumination: Non-Illuminated; Operating Force: 160gf; Actuator Material: Polyphenylene Sulfide (PPS); Switch Travel: 0.25mm; Mechanical Life: 100,000 Cycles; Supplier 1: Digi-Key; RoHS: RoHS Compliant; Category: Switches; Stock 1: 33712; Pricing 1: 1=0.23, 10=0.223, 25=0.2136, 50=0.2038, 100=0.1843, 250=0.1698, 500=0.15524 (USD); Packaging: Cut Tape (CT); Circuit: SPST-NO; Mounting Type: Surface Mount; Termination Style: Gull Wing; Illumination Voltage (Nominal): -; Illumination Type, Color: -; Ingress Protection: -; Features: -; Operating Temperature: -35°C ~ 85°C; ComponentLink1URL: http://www.te.com/commerce/DocumentDelivery/DDEController?Action=srchrtrv&DocNm=2-1437565-7&DocType=Customer+Drawing&DocLang=English; ComponentLink1Description: http://www.te.com/commerce/DocumentDelivery/DDEController?Action=srchrtrv&DocNm=2-1437565-7&DocType=Customer+Drawing&DocLang=English; Supplier Part Number 1: 450-1759-1-ND
footprint swich_foot
pins: 1 *, 2 *

## SWITCH_DPDT_ILUMINATED
designator SW?
SWITCH PUSH DPDT 300MA 30V; Manufacturer: E-Switch; Manufacturer Part Number: WBL2UEEGBQR05CLR; Switch Function: On-On; Current Rating: 300mA (DC); Actuator Type: Round, Button; Color - Actuator/Cap: Clear; Illumination Type, Color: LED, Green/Blue; Illumination Voltage (Nominal): 1.7, 3.5 VDC; Mechanical Life: 10,000 Cycles; Supplier 1: Digi-Key; RoHS: RoHS Compliant; Category: Switches; Stock 1: 415; Pricing 1: 1=4.35, 10=4.064, 50=3.6766, 100=3.5798, 250=3.483, 500=3.2895, 1000=3.096, 2500=2.80575, 5000=2.61225 (USD); Packaging: Bulk; Type: Standard, Illuminated; Circuit: DPDT; Voltage Rating - AC: -; Voltage Rating - DC: 30V; Mounting Type: Through Hole, Right Angle; Termination Style: PC Pin; Ingress Protection: -; Features: -; Panel Cutout Dimensions: -; Operating Temperature: -20°C ~ 70°C; Electrical Life: -; ComponentLink1URL: https://www.e-switch.com/system/asset/product_line/data_sheet/68/WBL.pdf; ComponentLink1Description: https://www.e-switch.com/system/asset/product_line/data_sheet/68/WBL.pdf; Supplier Part Number 1: EG5012-ND
footprint SWITCH_ONOFF_illuminated
pins: 1, 2, 3, 4, 5, 6, +, -

## SWITCH_SIDE
designator SW?
SWITCH TACTILE SPST-NO 0.05A 24V; Manufacturer: TE Connectivity Alcoswitch Switches; Manufacturer Part Number: 1825027-5; Switch Function: Off-Mom; Contact Rating @ Voltage: 0.05A @ 24VDC; Actuator Type: Standard; Actuator Height off PCB, from Pins: 3.86mm; Actuator Orientation: Side Actuated; Outline: 7.10mm x 7.00mm; Illumination: Non-Illuminated; Operating Force: 160gf; Actuator Material: Polybutylene Terephthalate (PBT); Switch Travel: 0.25mm; Mechanical Life: 100,000 Cycles; Supplier 1: Digi-Key; RoHS: RoHS Compliant; Category: Switches; Stock 1: 58431; Pricing 1: 1=0.16, 25=0.1512, 50=0.146, 100=0.138, 200=0.13, 500=0.124, 1000=0.095, 2000=0.078 (USD); Packaging: Bulk; Circuit: SPST-NO; Mounting Type: Through Hole, Right Angle; Termination Style: PC Pin; Illumination Voltage (Nominal): -; Illumination Type, Color: -; Ingress Protection: -; Features: -; Operating Temperature: -35°C ~ 85°C; ComponentLink1URL: http://www.te.com/commerce/DocumentDelivery/DDEController?Action=srchrtrv&DocNm=1825027&DocType=Customer+Drawing&DocLang=English; ComponentLink1Description: http://www.te.com/commerce/DocumentDelivery/DDEController?Action=srchrtrv&DocNm=1825027&DocType=Customer+Drawing&DocLang=English; Supplier Part Number 1: 450-1662-ND
footprint SWITCH_SIDE_SHORT
pins: 1 *, 2 *

## Test_Point
designator TP?  (value not drawn)
footprint TestPoint
pins: 0 TP

## TLP185(GR,E)
designator U?
OPTOISO 3.75KV TRANS 6-SO 4 LEAD; Manufacturer: Toshiba Semiconductor and Storage; Manufacturer Part Number: TLP185(GR,E); Number of Channels: 1; Voltage - Isolation: 3750Vrms; Current Transfer Ratio (Min): 100% @ 5mA; Current Transfer Ratio (Max): 300% @ 5mA; Turn On / Turn Off Time (Typ): 9µs, 9µs; Rise / Fall Time (Typ): 5µs, 9µs; Input Type: DC; Output Type: Transistor; Voltage - Output (Max): 80V; Current - Output / Channel: 50mA; Voltage - Forward (Vf) (Typ): 1.25V; Vce Saturation (Max): 300mV; Supplier 1: Digi-Key; RoHS: RoHS Compliant; Category: Isolators; Stock 1: 5555; Pricing 1: 1=0.53, 25=0.3412, 100=0.294, 250=0.26252, 500=0.22576, 1000=0.1743, 2500=0.1575, 5000=0.147 (USD); Packaging: Tube; Current - DC Forward (If) (Max): 50mA; Operating Temperature: -55°C ~ 110°C; Mounting Type: Surface Mount; Package / Case: 6-SMD (4 Leads), Gull Wing; Supplier Device Package: 6-SO, 4 Lead; ComponentLink1URL: http://www.semicon.toshiba.co.jp/docs/datasheet/en/Opto/TLP185_en_datasheet_120214.pdf; ComponentLink1Description: http://www.semicon.toshiba.co.jp/docs/datasheet/en/Opto/TLP185_en_datasheet_120214.pdf; Supplier Part Number 1: TLP185(GRE)-ND
footprint SOIC6 (4 leads) (SOIC, SMD 6, 4-Leads, Body 3,75x4,60mm, Pitch 1,27mm, IPC Medium Density)
pins: 1 control+, 3 control-, 4 DC-, 6 DC+